# Altium footprint library MountingHoles.PcbLib: 30 footprints (part 1 of 2)
Each footprint in its own frame and in the unit in brackets; x right, y up, seen from the top. Pads: shape width x height; smd on the part's side, far side on the other; paste and mask are expansions set on the pad; w line width, h text height; cw(c..) or ccw(c..) is an arc to the next point about the centre after c.
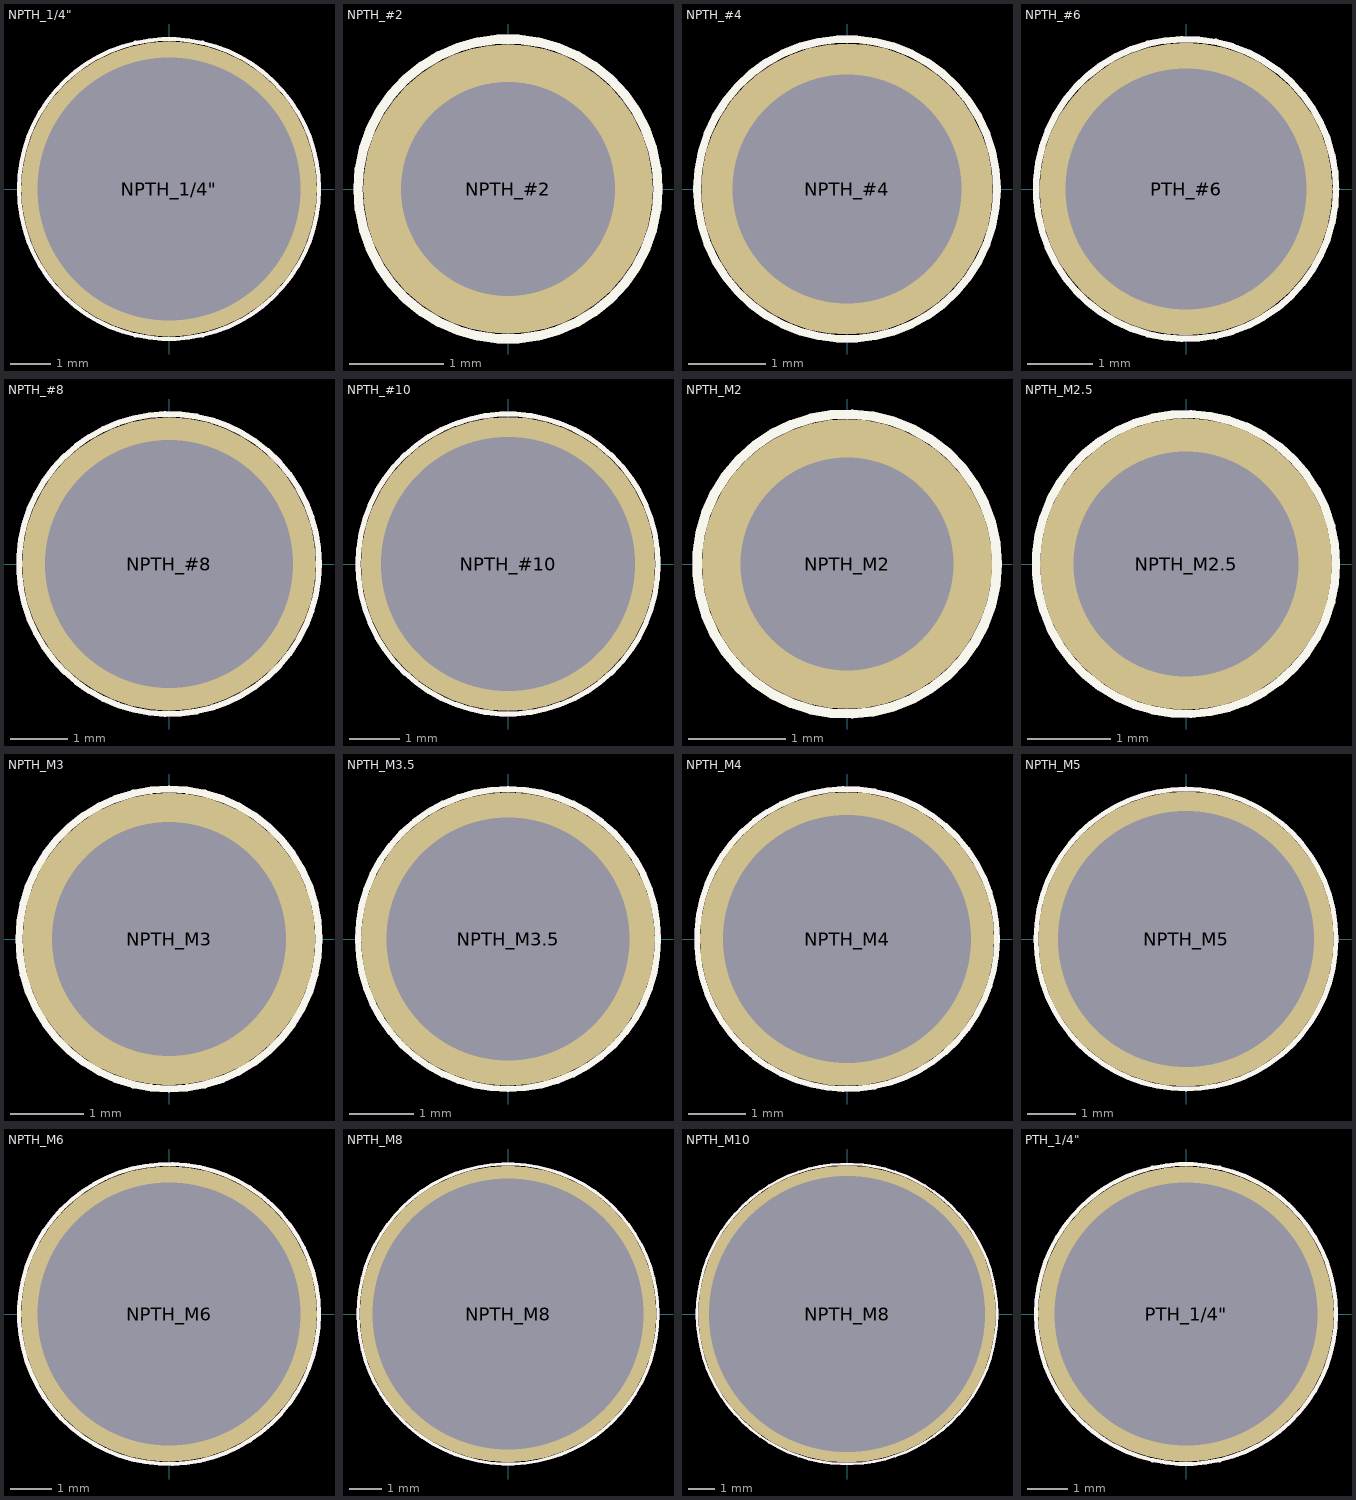
[diagram p0: the footprints below, top view; thin cyan lines are the x and y axes]

## NPTH_1/4" [mm] "Non-Plated Mounting Hole 1/4\""
pads (1):
  round 7.3 hole 6.5 unplated: "NPTH_1/4\""(0,0)
Top Overlay:
  circle w0.1: c0,0 r3.705
Top Assembly:
  circle w0.1: c0,0 r3.705

## NPTH_#2 [mm] "Non-Plated Mounting Hole #2"
pads (1):
  round 3.06 hole 2.26 unplated: NPTH_#2(0,0)
Top Overlay:
  circle w0.1: c0,0 r1.585
Top Assembly:
  circle w0.1: c0,0 r1.585

## NPTH_#4 [mm] "Non-Plated Mounting Hole #4"
pads (1):
  round 3.75 hole 2.95 unplated: NPTH_#4(0,0)
Top Overlay:
  circle w0.1: c0,0 r1.93
Top Assembly:
  circle w0.1: c0,0 r1.93

## NPTH_#6 [mm] "Non-Plated Mounting Hole #6"
pads (1):
  round 4.5 hole 3.7 unplated: PTH_#6(0,0)
Top Overlay:
  circle w0.1: c0,0 r2.305
Top Assembly:
  circle w0.1: c0,0 r2.305

## NPTH_#8 [mm] "Non-Plated Mounting Hole #8"
pads (1):
  round 5.1 hole 4.3 unplated: NPTH_#8(0,0)
Top Overlay:
  circle w0.1: c0,0 r2.605
Top Assembly:
  circle w0.1: c0,0 r2.605

## NPTH_#10 [mm] "Non-Plated Mounting Hole #10"
pads (1):
  round 5.8 hole 5 unplated: NPTH_#10(0,0)
Top Overlay:
  circle w0.1: c0,0 r2.955
Top Assembly:
  circle w0.1: c0,0 r2.955

## NPTH_M2 [mm] "Non-Plated Mounting Hole M2"
pads (1):
  round 3 hole 2.2 unplated: NPTH_M2(0,0)
Top Overlay:
  circle w0.1: c0,0 r1.55
Top Assembly:
  circle w0.1: c0,0 r1.55

## NPTH_M2.5 [mm] "Non-Plated Mounting Hole M2.5"
pads (1):
  round 3.5 hole 2.7 unplated: NPTH_M2.5(0,0)
Top Overlay:
  circle w0.1: c0,0 r1.8
Top Assembly:
  circle w0.1: c0,0 r1.8

## NPTH_M3 [mm] "Non-Plated Mounting Hole M3"
pads (1):
  round 4 hole 3.2 unplated: NPTH_M3(0,0)
Top Overlay:
  circle w0.1: c0,0 r2.05
Top Assembly:
  circle w0.1: c0,0 r2.05

## NPTH_M3.5 [mm] "Non-Plated Mounting Hole M3.5"
pads (1):
  round 4.6 hole 3.8 unplated: NPTH_M3.5(0,0)
Top Overlay:
  circle w0.1: c0,0 r2.35
Top Assembly:
  circle w0.1: c0,0 r2.35

## NPTH_M4 [mm] "Non-Plated Mounting Hole M4"
pads (1):
  round 5.1 hole 4.3 unplated: NPTH_M4(0,0)
Top Overlay:
  circle w0.1: c0,0 r2.6
Top Assembly:
  circle w0.1: c0,0 r2.6

## NPTH_M5 [mm] "Non-Plated Mounting Hole M5"
pads (1):
  round 6.1 hole 5.3 unplated: NPTH_M5(0,0)
Top Overlay:
  circle w0.1: c0,0 r3.1
Top Assembly:
  circle w0.1: c0,0 r3.1

## NPTH_M6 [mm] "Non-Plated Mounting Hole M6"
pads (1):
  round 7.2 hole 6.4 unplated: NPTH_M6(0,0)
Top Overlay:
  circle w0.1: c0,0 r3.65
Top Assembly:
  circle w0.1: c0,0 r3.65

## NPTH_M8 [mm] "Non-Plated Mounting Hole M8"
pads (1):
  round 9.2 hole 8.4 unplated: NPTH_M8(0,0)
Top Overlay:
  circle w0.1: c0,0 r4.65
Top Assembly:
  circle w0.1: c0,0 r4.65

## NPTH_M10 [mm] "Non-Plated Mounting Hole M10"
pads (1):
  round 11.2 hole 10.4 unplated: NPTH_M8(0,0)
Top Overlay:
  circle w0.1: c0,0 r5.65
Top Assembly:
  circle w0.1: c0,0 r5.65

## PTH_1/4" [mm] "Plated Mounting Hole 1/4\""
pads (1):
  round 7.3 hole 6.5: "PTH_1/4\""(0,0)
Top Overlay:
  circle w0.1: c0,0 r3.705
Top Assembly:
  circle w0.1: c0,0 r3.705